# EAGLE library part 1.69-INCH-SCREEN-ROUNDED (library Ristretto)
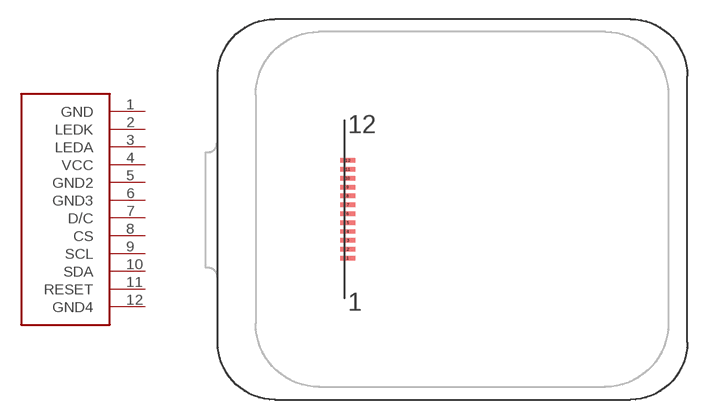
[diagram p6: symbol with the pads of 1.69-INCH-SCREEN-ROUNDED; footprint 1.69-INCH-SCREEN-ROUNDED]

Designator prefix -

## 1.69-INCH-SCREEN-ROUNDED  [1.69-INCH-SCREEN-ROUNDED]
1  GND
2  LEDK
3  LEDA
4  VCC
5  GND2
6  GND3
7  D/C
8  CS
9  SCL
10  SDA
11  RESET
12  GND4

## Footprint 1.69-INCH-SCREEN-ROUNDED (pad centres in mm)
smd 1.2 x 0.35: 1 -9,-3.85; 2 -9,-3.15; 3 -9,-2.45; 4 -9,-1.75; 5 -9,-1.05; 6 -9,-0.35; 7 -9,0.35; 8 -9,1.05; 9 -9,1.75; 10 -9,2.45; 11 -9,3.15; 12 -9,3.85